# Altium schematic symbol library clockic.SchLib: 27 symbols
Pins are listed as number, name and electrical type; pins without a type are passive.

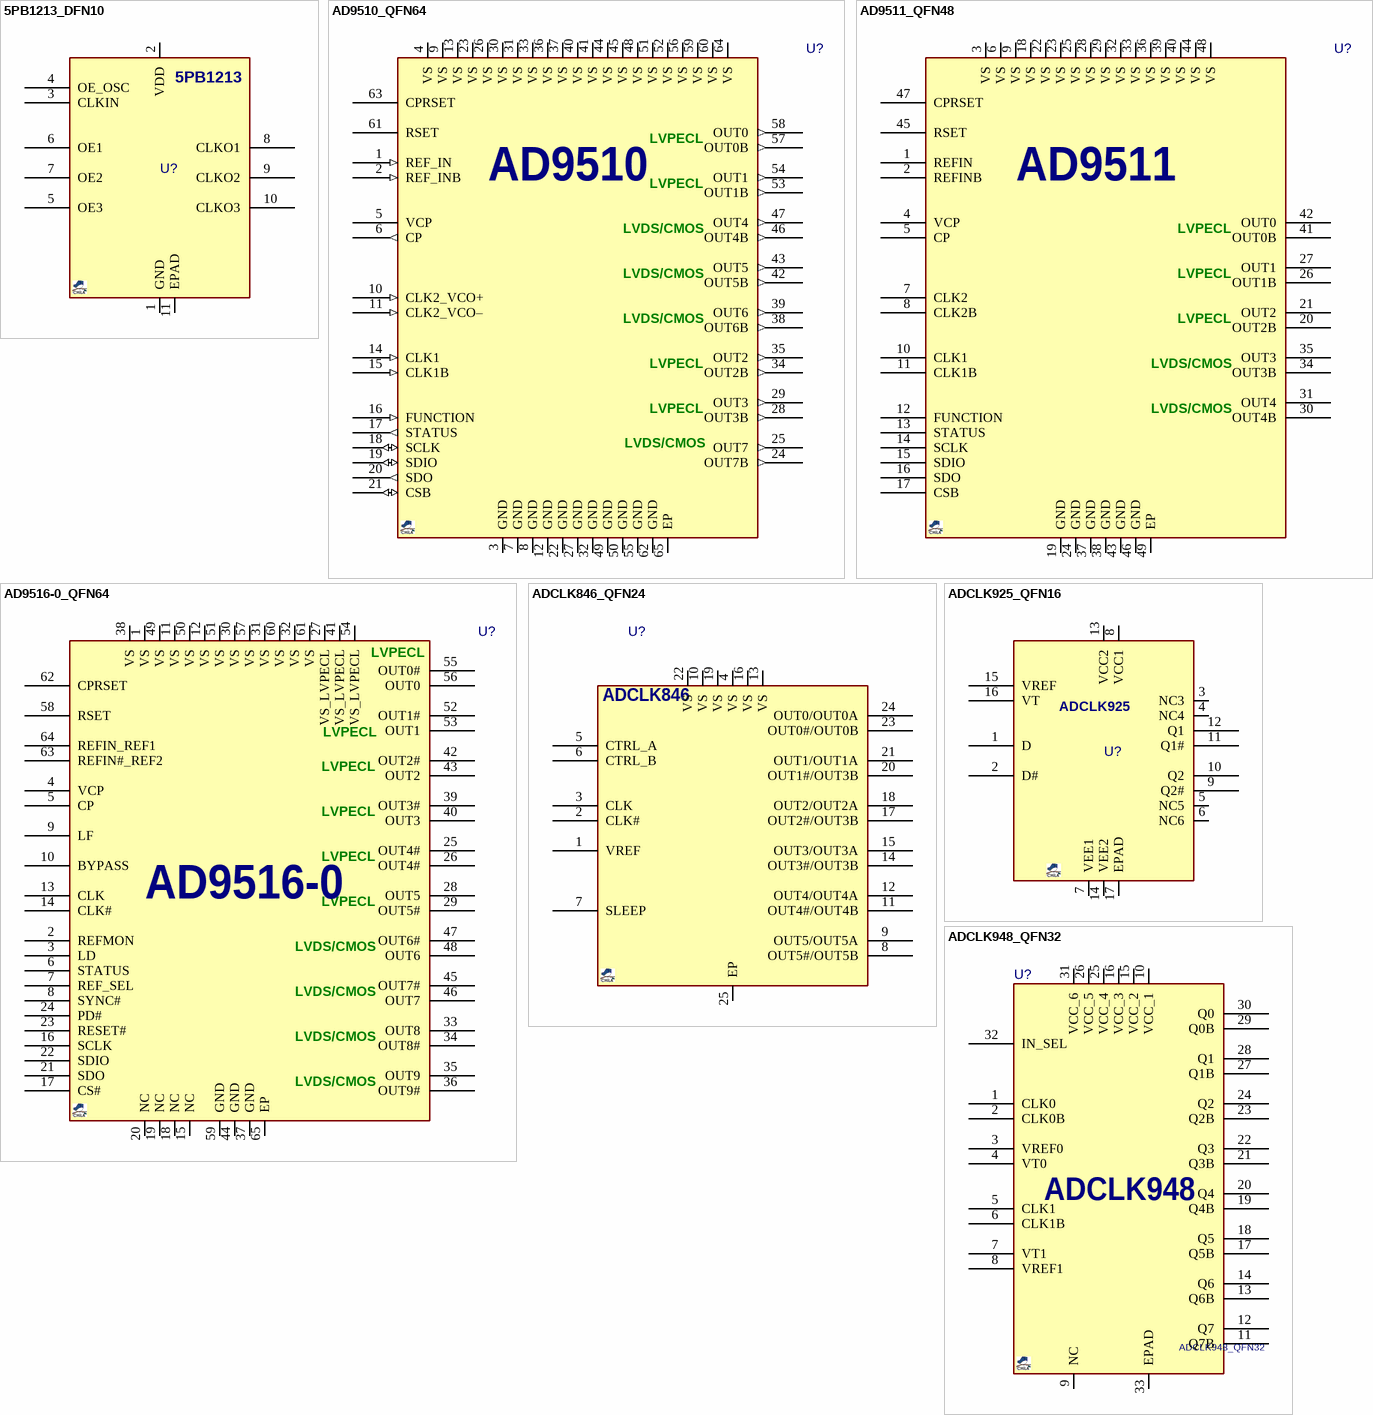
[diagram p0: symbols 5PB1213_DFN10 to ADCLK948_QFN32]

## 5PB1213_DFN10
designator U?, comment 5PB1213  (value not drawn)
Clock Distributor, 3-OUTPUT, 200MHz, 18fs jitter, 2ns tpd; MANF: IDT; MANF_P#: 5PB1213NTGK; PARAM2: 2.5/3.3V; PARAM: 200MHz, 18fs jitter, 2ns tpd, -40~105oC; PRICE: 2$; VALUE: 5PB1213
footprint SON40_10T_2020 (WSON, 10-LEAD, DSQ, 0.4mm pitch, 2x2mm)
pins: 1 GND, 2 VDD, 3 CLKIN, 4 OE_OSC, 5 OE3, 6 OE1, 7 OE2, 8 CLKO1, 9 CLKO2, 10 CLKO3, 11 EPAD

## AD9510_QFN64
designator U?, comment AD9510  (value not drawn)
Clock Distributor, PLL, 8-Output, 1.2GHz; MANF: Analog Devices; PARAM: LVPECL/LVDS/COMS, -40~85oC; DESC: DESCRIPTION; MANF_P#: AD9510BCPZ; PARAM2: 3.3V; ASSEMBLY: ASSEMBLY; PRICE: 13.75$; VALUE: AD9510
footprint QFN50_64T (LFCSP_VQ, MO-220-VMMD-4, MO-220-WNJR-5(JEDEC), RGC S-PQFP-N64 (TI), 9X9mm, 0.5mm)
pins: 1 REF_IN (in), 2 REF_INB (in), 3 GND (power), 4 VS (power), 5 VCP (power), 6 CP (out), 7 GND (power), 8 GND (power), 9 VS (power), 10 CLK2_VCO+ (in), 11 CLK2_VCO– (in), 12 GND (power), 13 VS (power), 14 CLK1 (in), 15 CLK1B (in), 16 FUNCTION (in), 17 STATUS (out), 18 SCLK (io), 19 SDIO (io), 20 SDO (out), 21 CSB (io), 22 GND (power), 23 VS (power), 24 OUT7B (out), 25 OUT7 (out), 26 VS (power), 27 GND (power), 28 OUT3B (out), 29 OUT3 (out), 30 VS (power), 31 VS (power), 32 GND (power), 33 VS (power), 34 OUT2B (out), 35 OUT2 (out), 36 VS (power), 37 VS (power), 38 OUT6B (out), 39 OUT6 (out), 40 VS (power), 41 VS (power), 42 OUT5B (out), 43 OUT5 (out), 44 VS (power), 45 VS (power), 46 OUT4B (out), 47 OUT4 (out), 48 VS (power), 49 GND (power), 50 GND (power), 51 VS (power), 52 VS (power), 53 OUT1B (out), 54 OUT1 (out), 55 GND (power), 56 VS (power), 57 OUT0B (out), 58 OUT0 (out), 59 VS (power), 60 VS (power), 61 RSET (oe), 62 GND (power), 63 CPRSET (oe), 64 VS (power), 65 EP
text: LVPECL; LVDS/CMOS

## AD9511_QFN48
designator U?, comment AD9511  (value not drawn)
Clock Distributor, PLL, 5-Output, 1.2GHz; MANF: Analog Devices; PARAM: LVPECL/LVDS/COMS, -40~85oC; DESC: DESCRIPTION; MANF_P#: AD9511BCPZ; PARAM2: 3.3V; ASSEMBLY: ASSEMBLY; PRICE: 14.6$; VALUE: AD9511
footprint QFN50_48T (CP-48 (Analog Device),, MO-220-VKKD-2(JEDEC), RGZ S-PQFP-N48, S-PWQFN-N48(TI), 7X7mm, 0.5mm)
pins: 1 REFIN, 2 REFINB, 3 VS, 4 VCP, 5 CP, 6 VS, 7 CLK2, 8 CLK2B, 9 VS, 10 CLK1, 11 CLK1B, 12 FUNCTION, 13 STATUS, 14 SCLK, 15 SDIO, 16 SDO, 17 CSB, 18 VS, 19 GND, 20 OUT2B, 21 OUT2, 22 VS, 23 VS, 24 GND, 25 VS, 26 OUT1B, 27 OUT1, 28 VS, 29 VS, 30 OUT4B, 31 OUT4, 32 VS, 33 VS, 34 OUT3B, 35 OUT3, 36 VS, 37 GND, 38 GND, 39 VS, 40 VS, 41 OUT0B, 42 OUT0, 43 GND, 44 VS, 45 RSET, 46 GND, 47 CPRSET, 48 VS, 49 EP
text: LVPECL; LVDS/CMOS

## AD9516-0_QFN64
designator U?, comment AD9516-0  (value not drawn)
Clock Distributor, PLL, 14-Output, 2.8GHz; MANF: Analog Devices; PARAM: 14-Output, 2.8GHz, -40~85oC; DESC: DESCRIPTION; MANF_P#: AD9516-0BCPZ; PARAM2: 2.5~3.3V; ASSEMBLY: ASSEMBLY; PRICE: 16$; VALUE: AD9516-0
footprint QFN50_64T (LFCSP_VQ, MO-220-VMMD-4, MO-220-WNJR-5(JEDEC), RGC S-PQFP-N64 (TI), 9X9mm, 0.5mm)
pins: 1 VS, 2 REFMON, 3 LD, 4 VCP, 5 CP, 6 STATUS, 7 REF_SEL, 8 SYNC#, 9 LF, 10 BYPASS, 11 VS, 12 VS, 13 CLK, 14 CLK#, 15 NC, 16 SCLK, 17 CS#, 18 NC, 19 NC, 20 NC, 21 SDO, 22 SDIO, 23 RESET#, 24 PD#, 25 OUT4#, 26 OUT4#, 27 VS_LVPECL, 28 OUT5, 29 OUT5#, 30 VS, 31 VS, 32 VS, 33 OUT8, 34 OUT8#, 35 OUT9, 36 OUT9#, 37 GND, 38 VS, 39 OUT3#, 40 OUT3, 41 VS_LVPECL, 42 OUT2#, 43 OUT2, 44 GND, 45 OUT7#, 46 OUT7, 47 OUT6#, 48 OUT6, 49 VS, 50 VS, 51 VS, 52 OUT1#, 53 OUT1, 54 VS_LVPECL, 55 OUT0#, 56 OUT0, 57 VS, 58 RSET, 59 GND, 60 VS, 61 VS, 62 CPRSET, 63 REFIN#_REF2, 64 REFIN_REF1, 65 EP
text: LVPECL; LVDS/CMOS

## ADCLK846_QFN24
designator U?, comment ADCLK846  (value not drawn)
Clock Distributor, 6/12OUTPUT, to 1.2GHz, 54fs; MANF: Analog Devices; MANF_P#: ADCLK846BCPZ; PARAM2: 1.8v, LVDS/CMOS; PARAM: 1.2GHz, 54fs, -40~85oC; PRICE: 9$; VALUE: ADCLK846
footprint QFN50_24T (RTW, RGE S-PQFP-N24 (TI), HVQFN24, 4X4mm, 0.5mm, MO-220 (JEDEC))
pins: 1 VREF, 2 CLK#, 3 CLK, 4 VS, 5 CTRL_A, 6 CTRL_B, 7 SLEEP, 8 OUT5#/OUT5B, 9 OUT5/OUT5A, 10 VS, 11 OUT4#/OUT4B, 12 OUT4/OUT4A, 13 VS, 14 OUT3#/OUT3B, 15 OUT3/OUT3A, 16 VS, 17 OUT2#/OUT3B, 18 OUT2/OUT2A, 19 VS, 20 OUT1#/OUT3B, 21 OUT1/OUT1A, 22 VS, 23 OUT0#/OUT0B, 24 OUT0/OUT0A, 25 EP

## ADCLK925_QFN16
designator U?, comment ADCLK925  (value not drawn)
Clock Distributor, 2-OUTPUT, 6GHz, 60fs jitter, 95ps tpd; MANF: ANALOG DEVICE; MANF_P#: ADCLK925BCPZ; PARAM2: 2.5~3.3V; PARAM: 6GHz, 60fs jitter, 95ps tpd, -40~125oC; PRICE: 11$; VALUE: ADCLK925
footprint QFN50_16T_3X3 (RGT PVQFN (TI), 16-lead, pitch: 0.5mm, 3x3mm)
pins: 1 D, 2 D#, 3 NC3, 4 NC4, 5 NC5, 6 NC6, 7 VEE1, 8 VCC1, 9 Q2#, 10 Q2, 11 Q1#, 12 Q1, 13 VCC2, 14 VEE2, 15 VREF, 16 VT, 17 EPAD

## ADCLK948_QFN32
designator U?
Clock Distributor, 8-OUTPUT, 4.8GHz, 75fs; DESC: LVPECL, CML, CMOS3.3/1.8, LVDS; MANF: Analog Devices; MANF_P#: ADCLK948BCPZ; PARAM2: 3.3v, LVPECL, CML, CMOS3.3/1.8, LVDS; PARAM: 4.8GHz, 75fs, -40~85oC; PRICE: 11$; VALUE: ADCLK948
footprint QFN50_32T (QFN-32, RGJ, 5X5mm, 0.5mm)
pins: 1 CLK0, 2 CLK0B, 3 VREF0, 4 VT0, 5 CLK1, 6 CLK1B, 7 VT1, 8 VREF1, 9 NC, 10 VCC_1, 11 Q7B, 12 Q7, 13 Q6B, 14 Q6, 15 VCC_2, 16 VCC_3, 17 Q5B, 18 Q5, 19 Q4B, 20 Q4, 21 Q3B, 22 Q3, 23 Q2B, 24 Q2, 25 VCC_4, 26 VCC_5, 27 Q1B, 28 Q1, 29 Q0B, 30 Q0, 31 VCC_6, 32 IN_SEL, 33 EPAD

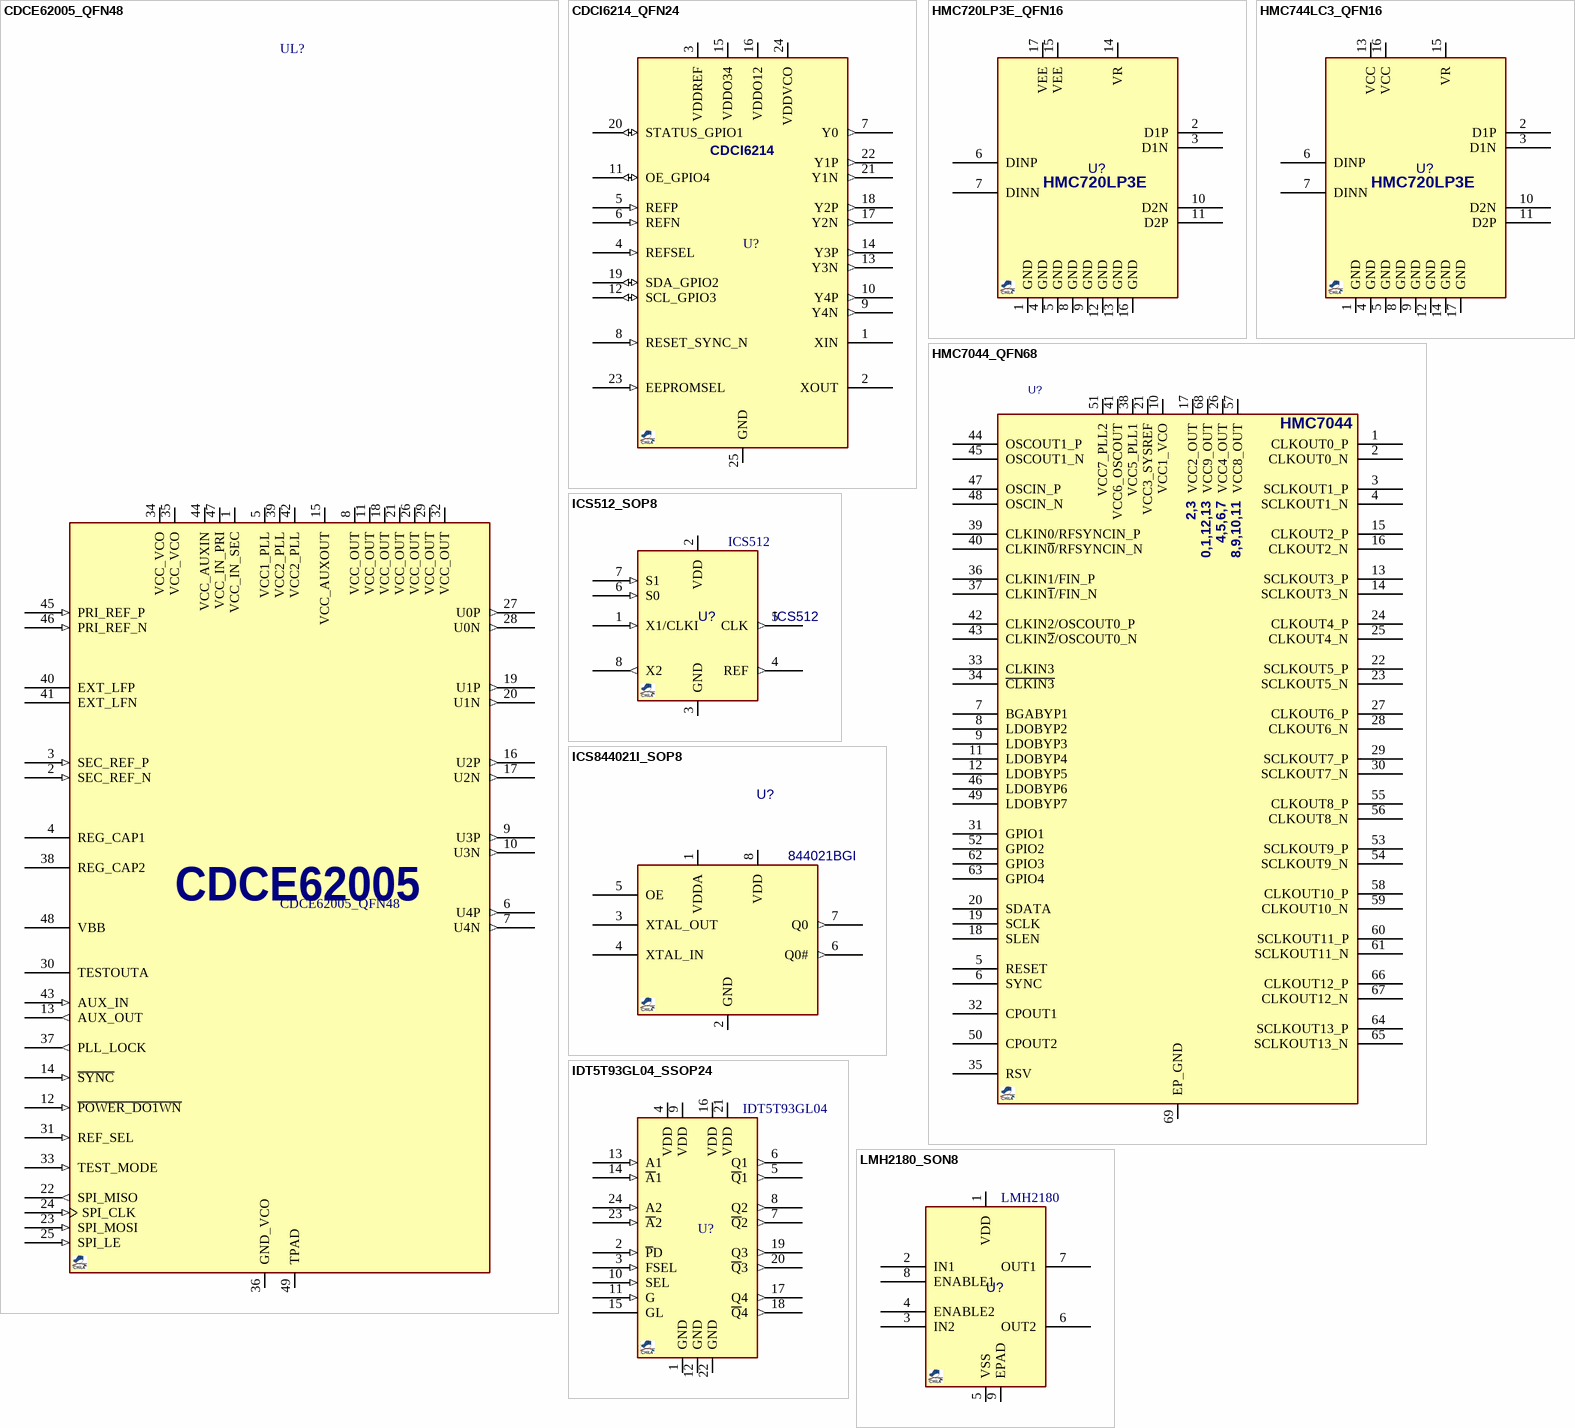
[diagram p1: symbols CDCE62005_QFN48 to LMH2180_SON8]

## CDCE62005_QFN48
designator UL?
Clock Generator, 4-Out, Jitter Cleaner, Integrated VCO; MANF: Texas Instruments; MANF_P#: CDCE62005RGZ; PARAM2: 3.3V, LVPECL, LVDS, LVCOMS; PARAM: 1175MHz, -40~85oC; PRICE: 16.4$; VALUE: CDCE62005
footprint QFN50_48T (CP-48 (Analog Device),, MO-220-VKKD-2(JEDEC), RGZ S-PQFP-N48, S-PWQFN-N48(TI), 7X7mm, 0.5mm)
pins: 1 VCC_IN_SEC (power), 2 SEC_REF_N (in), 3 SEC_REF_P (in), 4 REG_CAP1, 5 VCC1_PLL (power), 6 U4P (out), 7 U4N (out), 8 VCC_OUT (power), 9 U3P (out), 10 U3N (out), 11 VCC_OUT (power), 12 ~{POWER_DO1WN} (in), 13 AUX_OUT (out), 14 ~{SYNC} (in), 15 VCC_AUXOUT (power), 16 U2P (out), 17 U2N (out), 18 VCC_OUT (power), 19 U1P (out), 20 U1N (out), 21 VCC_OUT (power), 22 SPI_MISO (out), 23 SPI_MOSI (in), 24 SPI_CLK (in), 25 SPI_LE (in), 26 VCC_OUT (power), 27 U0P (out), 28 U0N (out), 29 VCC_OUT (power), 30 TESTOUTA, 31 REF_SEL (in), 32 VCC_OUT (power), 33 TEST_MODE (in), 34 VCC_VCO (power), 35 VCC_VCO (power), 36 GND_VCO, 37 PLL_LOCK (out), 38 REG_CAP2, 39 VCC2_PLL (power), 40 EXT_LFP, 41 EXT_LFN, 42 VCC2_PLL (power), 43 AUX_IN (in), 44 VCC_AUXIN (power), 45 PRI_REF_P (in), 46 PRI_REF_N (in), 47 VCC_IN_PRI (power), 48 VBB, 49 TPAD

## CDCI6214_QFN24
designator U?, comment CDCI6214  (value not drawn)
CLOCK, Generation, 4-output, PCIe Gen4; MANF_P#: CDCI6214RGER; MANF: Texas Instruments; PARAM: 4-OUTPUT, UP to 350MHz; VALUE: CDCI6214
footprint QFN50_24T (MO-220 (JEDEC), RGE S-PQFP-N24 (TI), 4X4mm, 0.5mm, HVQFN24)
pins: 1 XIN, 2 XOUT, 3 VDDREF (power), 4 REFSEL (in), 5 REFP (in), 6 REFN (in), 7 Y0 (out), 8 RESET_SYNC_N (in), 9 Y4N (out), 10 Y4P (out), 11 OE_GPIO4 (io), 12 SCL_GPIO3 (io), 13 Y3N (out), 14 Y3P (out), 15 VDDO34 (power), 16 VDDO12 (power), 17 Y2N (out), 18 Y2P (out), 19 SDA_GPIO2 (io), 20 STATUS_GPIO1 (io), 21 Y1N (out), 22 Y1P (out), 23 EEPROMSEL (in), 24 VDDVCO (power), 25 GND (power)

## HMC720LP3E_QFN16
designator U?, comment HMC720LP3E  (value not drawn)
Fanout Buffer, 1:2, 14Gbps, 120ps tpd; MANF: Analog Devices; PARAM2: -3.3v; PARAM: 14Gbps, 120ps tpd, -40~105oC; MANF_P#: HMC720LP3E; PRICE: 80$; VALUE: HMC720LP3E
footprint QFN50_16T_3X3 (RGT PVQFN (TI), 16-lead, pitch: 0.5mm, 3x3mm)
pins: 1 GND, 2 D1P, 3 D1N, 4 GND, 5 GND, 6 DINP, 7 DINN, 8 GND, 9 GND, 10 D2N, 11 D2P, 12 GND, 13 GND, 14 VR, 15 VEE, 16 GND, 17 VEE

## HMC744LC3_QFN16
designator U?, comment HMC744LC3  (value not drawn)
Fanout Buffer, 1:2, 14Gbps, 120ps tpd; MANF: Analog Devices; PARAM2: 3.3v; PARAM: 14Gbps, 120ps tpd, -40~105oC; MANF_P#: HMC744LC3; PRICE: 140$; VALUE: HMC744LC3
footprint QFN50_16T_3X3 (RGT PVQFN (TI), 16-lead, pitch: 0.5mm, 3x3mm)
pins: 1 GND, 2 D1P, 3 D1N, 4 GND, 5 GND, 6 DINP, 7 DINN, 8 GND, 9 GND, 10 D2N, 11 D2P, 12 GND, 13 VCC, 14 GND, 15 VR, 16 VCC, 17 GND
text: HMC720LP3E

## HMC7044_QFN68
designator U?, comment HMC7044  (value not drawn)
Clock Synthesizer / Jitter Cleaner HiPerf,3.2 GHz,14-OP Jttr Att w/JESD204B; MANF: Analog Devices; MANF_P#: HMC7044LP10BE; PARAM: -; PRICE: -; VALUE: HMC7044
footprint QFN50_68T (HCP-68-1, 0.5mm pitch, 10X10X0.9mm)
pins: 1 CLKOUT0_P, 2 CLKOUT0_N, 3 SCLKOUT1_P, 4 SCLKOUT1_N, 5 RESET, 6 SYNC, 7 BGABYP1, 8 LDOBYP2, 9 LDOBYP3, 10 VCC1_VCO, 11 LDOBYP4, 12 LDOBYP5, 13 SCLKOUT3_P, 14 SCLKOUT3_N, 15 CLKOUT2_P, 16 CLKOUT2_N, 17 VCC2_OUT, 18 SLEN, 19 SCLK, 20 SDATA, 21 VCC3_SYSREF, 22 SCLKOUT5_P, 23 SCLKOUT5_N, 24 CLKOUT4_P, 25 CLKOUT4_N, 26 VCC4_OUT, 27 CLKOUT6_P, 28 CLKOUT6_N, 29 SCLKOUT7_P, 30 SCLKOUT7_N, 31 GPIO1, 32 CPOUT1, 33 CLKIN3, 34 ~{CLKIN3}, 35 RSV, 36 CLKIN1/FIN_P, 37 CLKIN~{1}/FIN_N, 38 VCC5_PLL1, 39 CLKIN0/RFSYNCIN_P, 40 CLKIN~{0}/RFSYNCIN_N, 41 VCC6_OSCOUT, 42 CLKIN2/OSCOUT0_P, 43 CLKIN~{2}/OSCOUT0_N, 44 OSCOUT1_P, 45 OSCOUT1_N, 46 LDOBYP6, 47 OSCIN_P, 48 OSCIN_N, 49 LDOBYP7, 50 CPOUT2, 51 VCC7_PLL2, 52 GPIO2, 53 SCLKOUT9_P, 54 SCLKOUT9_N, 55 CLKOUT8_P, 56 CLKOUT8_N, 57 VCC8_OUT, 58 CLKOUT10_P, 59 CLKOUT10_N, 60 SCLKOUT11_P, 61 SCLKOUT11_N, 62 GPIO3, 63 GPIO4, 64 SCLKOUT13_P, 65 SCLKOUT13_N, 66 CLKOUT12_P, 67 CLKOUT12_N, 68 VCC9_OUT, 69 EP_GND
text: 2,3; 0,1,12,13; 4,5,6,7; 8,9,10,11

## ICS512_SOP8
designator U?, comment ICS512
CLOCK MULTIPLIER, PLL, LOCO, up to 200MHz; MANF: IDT; PARAM: up to 200MHz, -40~85oC; DESC: LOCO PLL CLOCK MULTIPLIER; MANF_P#: ICS512MILF, 512MILFT; PARAM2: 3.3/5V; ASSEMBLY: ASSEMBLY; PRICE: 3.5$; VALUE: ICS512
footprint SO_8 (SOP-8, 5x3.9mm body 1.27mm pitch, SOT96-1, M08A, S8, SOIC8, VO8, MS-012AA(JEDEC), R-8, 8S2, VOG8)
pins: 1 X1/CLKI (in), 2 VDD (power), 3 GND (power), 4 REF (out), 5 CLK (out), 6 S0 (in), 7 S1 (in), 8 X2 (out)

## ICS844021I_SOP8
designator U?, comment 844021BGI
CLOCK GENERATOR, ETHERNET , 170MHz; MANF: IDT; PARAM: 170MHz, 0~70oC; DESC: DESCRIPTION; MANF_P#: 844021BGI-01LF; PARAM2: 2.5V-3.3V; ASSEMBLY: ASSEMBLY; PRICE: 7$; VALUE: 844021BGI
footprint SOG65_8 (PW TSSOP (TI), MO-153 (JEDEC), 8Lead, pitch: 0.65mm, 3x4.4x1.2mm)
pins: 1 VDDA (power), 2 GND (power), 3 XTAL_OUT, 4 XTAL_IN, 5 OE, 6 Q0# (out), 7 Q0 (out), 8 VDD (power)

## IDT5T93GL04_SSOP24
designator U?, comment IDT5T93GL04
Clock Distributor/BUFFER, 4-OUTPUT, UP to 450MHz, GLITCHLESS; MANF: IDT; MANF_P#: IDT5T93GL04, 5T93GL04PGGI; PARAM2: 2.5V; PARAM: 4-OUTPUT, UP to 450MHz, GLITCHLESS; PRICE: obseloted; VALUE: IDT5T93GL04
footprint SOG65_24 (PW TSSOP (TI), MO-153-AD (JEDEC), 24Lead, pitch: 0.65mm, 8x4.4x1.2mm)
pins: 1 GND (power), 2 ~{P}D (in), 3 FSEL (in), 4 VDD (power), 5 ~{Q}1 (out), 6 Q1 (out), 7 ~{Q}2 (out), 8 Q2 (out), 9 VDD (power), 10 SEL (in), 11 G (in), 12 GND (power), 13 A1 (in), 14 ~{A}1 (in), 15 GL, 16 VDD (power), 17 Q4 (out), 18 ~{Q}4 (out), 19 Q3 (out), 20 ~{Q}3 (out), 21 VDD (power), 22 GND (power), 23 ~{A}2 (in), 24 A2 (in)

## LMH2180_SON8
designator U?, comment LMH2180
Clock Distributor, 2-OUTPUT, 75MHz; MANF: Texas Instruments; MANF_P#: LMH2180SD/NOPB, LMH2180SDE/NOPB, LMH2180YD/NOPB; PARAM2: 2.4~5V; PARAM: 75MHz, -40~85oC; PRICE: 2.6$; VALUE: LMH2180
footprint SON50_8T_3X3 (WSON-8, DRG, LFCSP_WD, 3X3mm 0.5mm pitch with Thermal pad)
pins: 1 VDD, 2 IN1, 3 IN2, 4 ENABLE2, 5 VSS, 6 OUT2, 7 OUT1, 8 ENABLE1, 9 EPAD

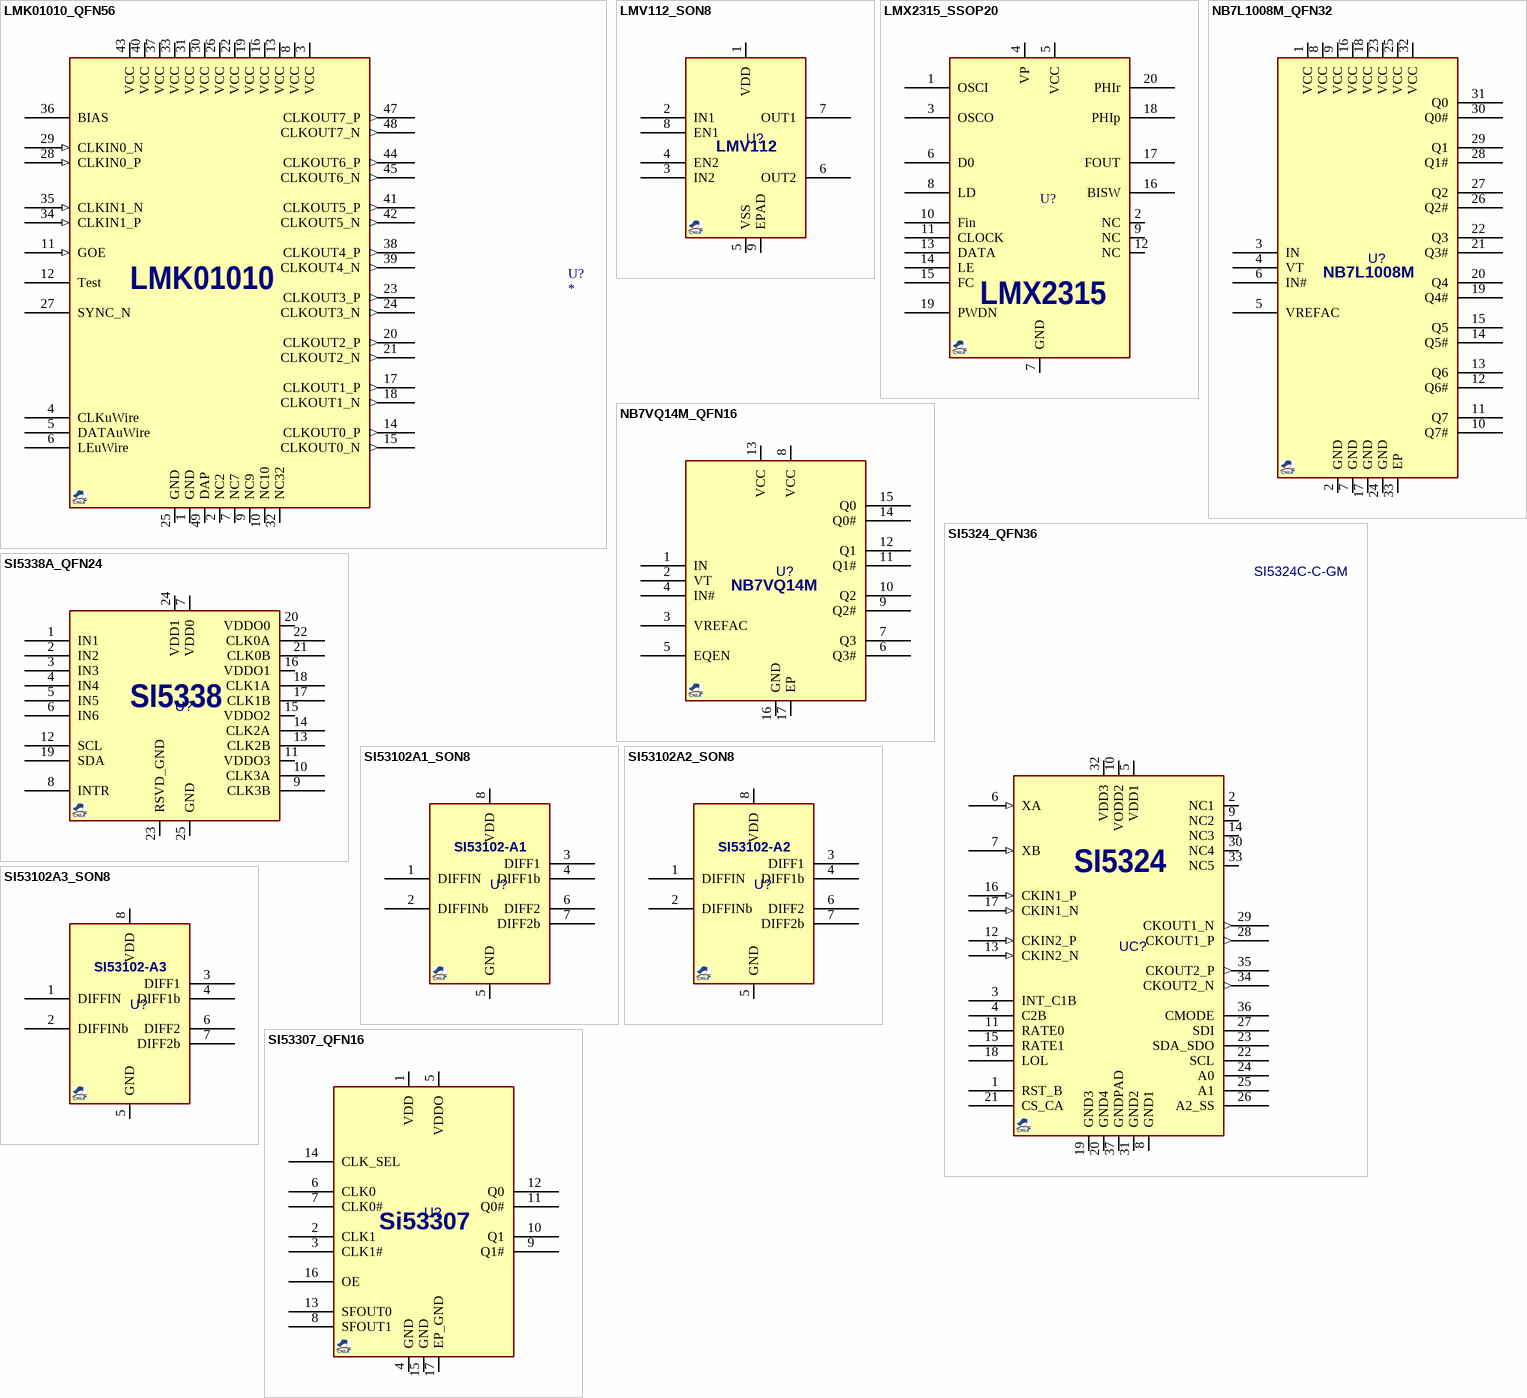
[diagram p2: symbols LMK01010_QFN56 to SI53307_QFN16]

## LMK01010_QFN56
designator U?
Clock Distributor/Buffer/Divider, 1.6GHz, 8-OUTPUT LVDS; MANF: TI; MANF_P#: LMK01010; PARAM2: 3.3V; VALUE: LMK01010; PARAM: 1.6GHz, 8-OUTPUT LVDS
footprint QFN50_56T (QFN56, pitch: 0.5mm, 8x8mm)
pins: 1 GND (power), 2 NC2, 3 VCC (power), 4 CLKuWire, 5 DATAuWire, 6 LEuWire, 7 NC7, 8 VCC (power), 9 NC9, 10 NC10, 11 GOE (in), 12 Test, 13 VCC (power), 14 CLKOUT0_P (out), 15 CLKOUT0_N (out), 16 VCC (power), 17 CLKOUT1_P (out), 18 CLKOUT1_N (out), 19 VCC (power), 20 CLKOUT2_P (out), 21 CLKOUT2_N (out), 22 VCC (power), 23 CLKOUT3_P (out), 24 CLKOUT3_N (out), 25 GND (power), 26 VCC (power), 27 SYNC_N, 28 CLKIN0_P (in), 29 CLKIN0_N (in), 30 VCC (power), 31 VCC (power), 32 NC32, 33 VCC (power), 34 CLKIN1_P (in), 35 CLKIN1_N (in), 36 BIAS, 37 VCC (power), 38 CLKOUT4_P (out), 39 CLKOUT4_N (out), 40 VCC (power), 41 CLKOUT5_P (out), 42 CLKOUT5_N (out), 43 VCC (power), 44 CLKOUT6_P (out), 45 CLKOUT6_N (out), 47 CLKOUT7_P (out), 48 CLKOUT7_N (out), 49 DAP (power)

## LMV112_SON8
designator U?, comment LMV112  (value not drawn)
Clock Distributor, 2-OUTPUT, 40MHz; MANF: Texas Instruments; MANF_P#: LMV112SD/NOPB, LMV112SDX/NOPB; PARAM2: 2.4~5V; PARAM: 40MHz, -40~85oC; PRICE: 1.1$; VALUE: LMV112
footprint SON50_8T_3X3 (WSON-8, DRG, LFCSP_WD, 3X3mm 0.5mm pitch with Thermal pad)
pins: 1 VDD, 2 IN1, 3 IN2, 4 EN2, 5 VSS, 6 OUT2, 7 OUT1, 8 EN1, 9 EPAD

## LMX2315_SSOP20
designator U?, comment LMX2315  (value not drawn)
PLL Frequency Synthesizer for RF, 1.2GHz; MANF: TI; MANF_P#: LMX2315; PARAM: 1.2GHz; VALUE: LMX2315
footprint SOG65_20 (PW TSSOP (TI), MO-153-AC (JEDEC), 20Lead, pitch: 0.65mm, 6.5x4.4x1.2mm)
pins: 1 OSCI, 2 NC, 3 OSCO, 4 VP, 5 VCC, 6 D0, 7 GND, 8 LD, 9 NC, 10 Fin, 11 CLOCK, 12 NC, 13 DATA, 14 LE, 15 FC, 16 BISW, 17 FOUT, 18 PHIp, 19 PWDN, 20 PHIr

## NB7L1008M_QFN32
designator U?, comment NB7L1008M  (value not drawn)
Fanout Buffer, 1:8, 8GHz/12Gbps, 160ps tpd; MANF: ON; MANF_P#: NB7L1008MNTXG; PARAM2: 2.5/3.3V; PARAM: 8GHz/12Gbps, 160ps tpd, -40~85°C; PRICE: 7$; VALUE: NB7L1008M
footprint QFN50_32T (HVQFN32, UFQFPN32, QFN-32, RGJ, 5X5X0.9mm, 0.5mm)
pins: 1 VCC, 2 GND, 3 IN, 4 VT, 5 VREFAC, 6 IN#, 7 GND, 8 VCC, 9 VCC, 10 Q7#, 11 Q7, 12 Q6#, 13 Q6, 14 Q5#, 15 Q5, 16 VCC, 17 GND, 18 VCC, 19 Q4#, 20 Q4, 21 Q3#, 22 Q3, 23 VCC, 24 GND, 25 VCC, 26 Q2#, 27 Q2, 28 Q1#, 29 Q1, 30 Q0#, 31 Q0, 32 VCC, 33 EP

## NB7VQ14M_QFN16
designator U?, comment NB7VQ14M  (value not drawn)
Fanout Buffer, 1:4, 8GHz/14Gbps, 165ps tpd; MANF: ON; MANF_P#: NB7VQ14MMNG, NB7VQ14MMNHTBG; PARAM2: 1.8/2.5/3.3V; PARAM: 8GHz/14Gbps, 120ps tpd, -40~85°C; PRICE: 10$; VALUE: NB7VQ14M
footprint QFN50_16T_3X3 (RGT PVQFN (TI), 16-lead, pitch: 0.5mm, 3x3mm)
pins: 1 IN, 2 VT, 3 VREFAC, 4 IN#, 5 EQEN, 6 Q3#, 7 Q3, 8 VCC, 9 Q2#, 10 Q2, 11 Q1#, 12 Q1, 13 VCC, 14 Q0#, 15 Q0, 16 GND, 17 EP

## SI5324_QFN36
designator UC?, comment SI5324C-C-GM
Clock Synthesizer / Jitter Cleaner; MANF: Silicon Labs; DESC: DESCRIPTION; PARAM2: 1.7V,3.6V; VALUE: SI5324; PRICE: 33.26$; ASSEMBLY: ASSEMBLY; MANF_P#: SI5324C-C-GM
footprint QFN50_36T_S600
pins: 1 RST_B, 2 NC1, 3 INT_C1B, 4 C2B, 5 VDD1, 6 XA (in), 7 XB (in), 8 GND1 (power), 9 NC2, 10 VODD2, 11 RATE0, 12 CKIN2_P (in), 13 CKIN2_N (in), 14 NC3, 15 RATE1, 16 CKIN1_P (in), 17 CKIN1_N (in), 18 LOL, 19 GND3 (power), 20 GND4 (power), 21 CS_CA, 22 SCL, 23 SDA_SDO, 24 A0, 25 A1, 26 A2_SS, 27 SDI, 28 CKOUT1_P (out), 29 CKOUT1_N (out), 30 NC4, 31 GND2 (power), 32 VDD3, 33 NC5, 34 CKOUT2_N (out), 35 CKOUT2_P (out), 36 CMODE, 37 GNDPAD (power)

## SI5338A_QFN24
designator U?, comment SI5338A  (value not drawn)
Clock Synthesizer / Jitter Cleaner; MANF: Silicon Labs; DESC: DESCRIPTION; MANF_P#: SI5338A-B-GM; PARAM2: 1.8~3.3VDD, 1.5~3.3VIO; PRICE: 16$; ASSEMBLY: ASSEMBLY; VALUE: SI5338A
footprint QFN50_24T (RTW, RGE S-PQFP-N24 (TI), HVQFN24, 4X4mm, 0.5mm, MO-220 (JEDEC))
pins: 1 IN1 (oc), 2 IN2 (oc), 3 IN3 (oc), 4 IN4 (oc), 5 IN5 (oc), 6 IN6 (oc), 7 VDD0 (oc), 8 INTR (oc), 9 CLK3B (oc), 10 CLK3A (oc), 11 VDDO3 (oc), 12 SCL (oc), 13 CLK2B (oc), 14 CLK2A (oc), 15 VDDO2 (oc), 16 VDDO1 (oc), 17 CLK1B (oc), 18 CLK1A (oc), 19 SDA (oc), 20 VDDO0 (oc), 21 CLK0B (oc), 22 CLK0A (oc), 23 RSVD_GND (oc), 24 VDD1 (oc), 25 GND (oc)
text: SI5338

## SI53102A1_SON8
designator U?, comment SI53102-A1  (value not drawn)
Clock Distributor, 2-OUTPUT, PCIe GEN1, 100MHz; MANF: Silicon Labs; MANF_P#: SI53102-A1-GM; PARAM2: 2.5/3.3V; PARAM: PCIe GEN1,SATA, 100MHz, -40~85oC; PRICE: 1.1$; VALUE: SI53102-A1
footprint SON40_8T_170X140 (DFN, TDFN pitch:0.4mm 1.7X1.35X0.8mm, 1.6X1.4mm)
pins: 1 DIFFIN, 2 DIFFINb, 3 DIFF1, 4 DIFF1b, 5 GND, 6 DIFF2, 7 DIFF2b, 8 VDD

## SI53102A2_SON8
designator U?, comment SI53102-A2  (value not drawn)
Clock Distributor, 2-OUTPUT, PCIe GEN2, 100MHz; MANF: Silicon Labs; MANF_P#: SI53102-A2-GM; PARAM2: 2.5/3.3V; PARAM: PCIe GEN2,SATA, 100MHz, -40~85oC; PRICE: 1.95$; VALUE: SI53102-A2
footprint SON40_8T_170X140 (DFN, TDFN pitch:0.4mm 1.7X1.35X0.8mm, 1.6X1.4mm)
pins: 1 DIFFIN, 2 DIFFINb, 3 DIFF1, 4 DIFF1b, 5 GND, 6 DIFF2, 7 DIFF2b, 8 VDD

## SI53102A3_SON8
designator U?, comment SI53102-A3  (value not drawn)
Clock Distributor, 2-OUTPUT, PCIe GEN3, 100MHz; MANF: Silicon Labs; MANF_P#: SI53102-A3-GM; PARAM2: 2.5/3.3V; PARAM: PCIe GEN3,SATA, 100MHz, -40~85oC; PRICE: 2.7$; VALUE: SI53102-A3
footprint SON40_8T_170X140 (DFN, TDFN pitch:0.4mm 1.7X1.35X0.8mm, 1.6X1.4mm)
pins: 1 DIFFIN, 2 DIFFINb, 3 DIFF1, 4 DIFF1b, 5 GND, 6 DIFF2, 7 DIFF2b, 8 VDD

## SI53307_QFN16
designator U?, comment Si53307  (value not drawn)
Clock Distributor, 2-OUTPUT, 0~725MHz; MANF: Silicon Labs; DESC: LVPECL/LVDS/LVCOMS/CML/HCSL; MANF_P#: SI53307-B-GM; PARAM2: 1.8/2.5/3.3VCC, 1.8/2.5/3.3VIO; PARAM: 0~725MHz, -40~85oC; PRICE: 2$; VALUE: Si53307
footprint QFN50_16T_3X3 (RGT PVQFN (TI), 16-lead, pitch: 0.5mm, 3x3mm)
pins: 1 VDD, 2 CLK1, 3 CLK1#, 4 GND, 5 VDDO, 6 CLK0, 7 CLK0#, 8 SFOUT1, 9 Q1#, 10 Q1, 11 Q0#, 12 Q0, 13 SFOUT0, 14 CLK_SEL, 15 GND, 16 OE, 17 EP_GND